# Altium schematic symbol library jlcpcb_2025_04_ferrites_extended_0402.schlib: 536 symbols (part 4 of 10)
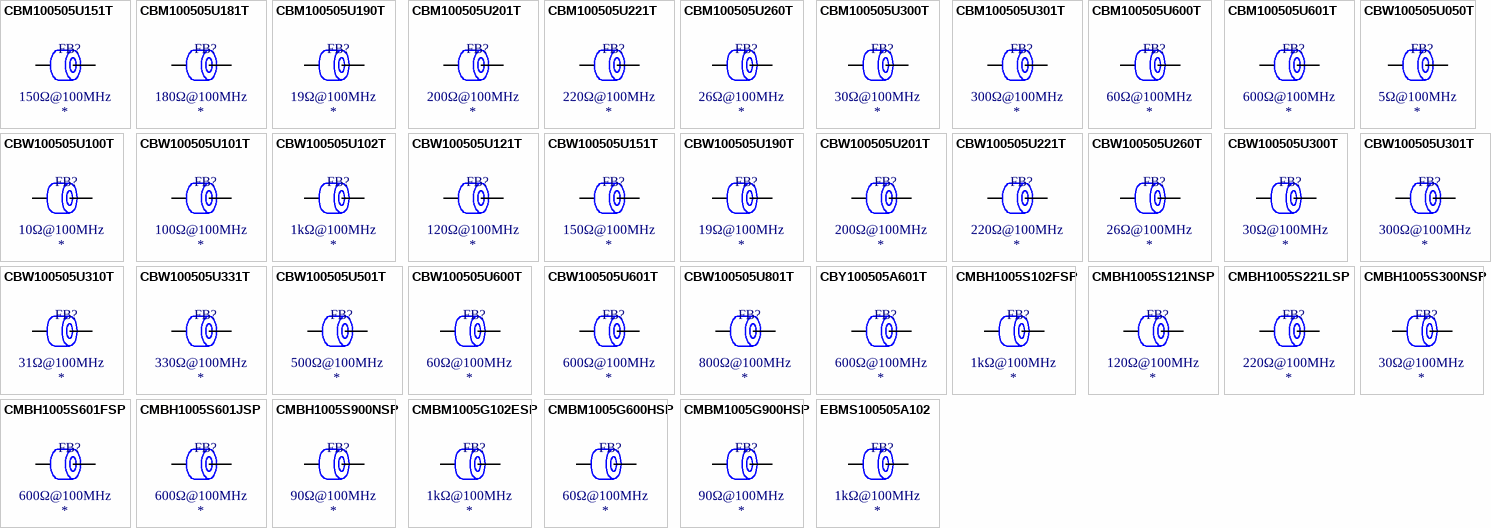
[diagram p16: symbols CBM100505U151T to EBMS100505A102]

## CBM100505U221T
designator FB?  Impedance @ Frequency: 220Ω@100MHz
Ferrite, 220Ω@100MHz, ±25%, 300mΩ, 600mA, SMD 0402; Manufacturer: FH(Guangdong Fenghua Advanced Tech); Manufacturer Part Number: CBM100505U221T; Package Size: 0402; JLCPCB Basic Part: No; JLCPCB Part Number: C394403; Supplier 1: LCSC; Category: Ferrite Beads; Supplier Part Number 1: C394403; Tolerance: ±25%; Rated Current: 600mA; DC Resistance: 300mΩ; RoHS: Yes; ComponentLink1Description: Datasheet; ComponentLink1URL: https://wmsc.lcsc.com/wmsc/upload/file/pdf/v2/lcsc/2304140030_FH--Guangdong-Fenghua-Advanced-Tech-CBM100505U221T_C394403.pdf; ComponentLink2Description: JLCPCB Part URL; ComponentLink2URL: https://jlcpcb.com/partdetail/C394403; ComponentLink3Description: LCSC Part URL; ComponentLink3URL: https://lcsc.com/product-detail/Ferrite-Beads_FH-Guangdong-Fenghua-Advanced-Tech-FH-Guangdong-Fenghua-Advanced-Tech-CBM100505U221T_C394403.html
footprint FB-0402 (0402 (1005M) Ferrite)
pins: 1, 2

## CBM100505U260T
designator FB?  Impedance @ Frequency: 26Ω@100MHz
Ferrite, 26Ω@100MHz, ±25%, SMD 0402; Manufacturer: FH(Guangdong Fenghua Advanced Tech); Manufacturer Part Number: CBM100505U260T; Package Size: 0402; JLCPCB Basic Part: No; JLCPCB Part Number: C394404; Supplier 1: LCSC; Category: Ferrite Beads; Supplier Part Number 1: C394404; Tolerance: ±25%; RoHS: Yes; ComponentLink1Description: Datasheet; ComponentLink1URL: https://wmsc.lcsc.com/wmsc/upload/file/pdf/v2/lcsc/1912111437_FH--Guangdong-Fenghua-Advanced-Tech-CBM100505U260T_C394404.pdf; ComponentLink2Description: JLCPCB Part URL; ComponentLink2URL: https://jlcpcb.com/partdetail/C394404; ComponentLink3Description: LCSC Part URL; ComponentLink3URL: https://lcsc.com/product-detail/Ferrite-Beads_FH-Guangdong-Fenghua-Advanced-Tech-FH-Guangdong-Fenghua-Advanced-Tech-CBM100505U260T_C394404.html
pins: 1, 2

## CBM100505U300T
designator FB?  Impedance @ Frequency: 30Ω@100MHz
Ferrite, 30Ω@100MHz, ±25%, 80mΩ, 1.3A, SMD 0402; Manufacturer: FH(Guangdong Fenghua Advanced Tech); Manufacturer Part Number: CBM100505U300T; Package Size: 0402; JLCPCB Basic Part: No; JLCPCB Part Number: C394405; Supplier 1: LCSC; Category: Ferrite Beads; Supplier Part Number 1: C394405; Tolerance: ±25%; Rated Current: 1.3A; DC Resistance: 80mΩ; RoHS: Yes; ComponentLink1Description: Datasheet; ComponentLink1URL: https://wmsc.lcsc.com/wmsc/upload/file/pdf/v2/lcsc/2304140030_FH--Guangdong-Fenghua-Advanced-Tech-CBM100505U300T_C394405.pdf; ComponentLink2Description: JLCPCB Part URL; ComponentLink2URL: https://jlcpcb.com/partdetail/C394405; ComponentLink3Description: LCSC Part URL; ComponentLink3URL: https://lcsc.com/product-detail/Ferrite-Beads_FH-Guangdong-Fenghua-Advanced-Tech-FH-Guangdong-Fenghua-Advanced-Tech-CBM100505U300T_C394405.html
footprint FB-0402 (0402 (1005M) Ferrite)
pins: 1, 2

## CBM100505U301T
designator FB?  Impedance @ Frequency: 300Ω@100MHz
Ferrite, 300Ω@100MHz, ±25%, 300mΩ, 600mA, SMD 0402; Manufacturer: FH(Guangdong Fenghua Advanced Tech); Manufacturer Part Number: CBM100505U301T; Package Size: 0402; JLCPCB Basic Part: No; JLCPCB Part Number: C394406; Supplier 1: LCSC; Category: Ferrite Beads; Supplier Part Number 1: C394406; Tolerance: ±25%; Rated Current: 600mA; DC Resistance: 300mΩ; RoHS: Yes; ComponentLink1Description: Datasheet; ComponentLink1URL: https://wmsc.lcsc.com/wmsc/upload/file/pdf/v2/lcsc/2304140030_FH--Guangdong-Fenghua-Advanced-Tech-CBM100505U301T_C394406.pdf; ComponentLink2Description: JLCPCB Part URL; ComponentLink2URL: https://jlcpcb.com/partdetail/C394406; ComponentLink3Description: LCSC Part URL; ComponentLink3URL: https://lcsc.com/product-detail/Ferrite-Beads_FH-Guangdong-Fenghua-Advanced-Tech-FH-Guangdong-Fenghua-Advanced-Tech-CBM100505U301T_C394406.html
footprint FB-0402 (0402 (1005M) Ferrite)
pins: 1, 2

## CBM100505U600T
designator FB?  Impedance @ Frequency: 60Ω@100MHz
Ferrite, 60Ω@100MHz, ±25%, 100mΩ, 1A, SMD 0402; Manufacturer: FH(Guangdong Fenghua Advanced Tech); Manufacturer Part Number: CBM100505U600T; Package Size: 0402; JLCPCB Basic Part: No; JLCPCB Part Number: C394407; Supplier 1: LCSC; Category: Ferrite Beads; Supplier Part Number 1: C394407; Tolerance: ±25%; Rated Current: 1A; DC Resistance: 100mΩ; RoHS: Yes; ComponentLink1Description: Datasheet; ComponentLink1URL: https://wmsc.lcsc.com/wmsc/upload/file/pdf/v2/lcsc/2304140030_FH--Guangdong-Fenghua-Advanced-Tech-CBM100505U600T_C394407.pdf; ComponentLink2Description: JLCPCB Part URL; ComponentLink2URL: https://jlcpcb.com/partdetail/C394407; ComponentLink3Description: LCSC Part URL; ComponentLink3URL: https://lcsc.com/product-detail/Ferrite-Beads_FH-Guangdong-Fenghua-Advanced-Tech-FH-Guangdong-Fenghua-Advanced-Tech-CBM100505U600T_C394407.html
footprint FB-0402 (0402 (1005M) Ferrite)
pins: 1, 2

## CBM100505U601T
designator FB?  Impedance @ Frequency: 600Ω@100MHz
Ferrite, 600Ω@100MHz, ±25%, 500mΩ, 500mA, SMD 0402; Manufacturer: FH(Guangdong Fenghua Advanced Tech); Manufacturer Part Number: CBM100505U601T; Package Size: 0402; JLCPCB Basic Part: No; JLCPCB Part Number: C394408; Supplier 1: LCSC; Category: Ferrite Beads; Supplier Part Number 1: C394408; Tolerance: ±25%; Rated Current: 500mA; DC Resistance: 500mΩ; RoHS: Yes; ComponentLink1Description: Datasheet; ComponentLink1URL: https://wmsc.lcsc.com/wmsc/upload/file/pdf/v2/lcsc/2304140030_FH--Guangdong-Fenghua-Advanced-Tech-CBM100505U601T_C394408.pdf; ComponentLink2Description: JLCPCB Part URL; ComponentLink2URL: https://jlcpcb.com/partdetail/C394408; ComponentLink3Description: LCSC Part URL; ComponentLink3URL: https://lcsc.com/product-detail/Ferrite-Beads_FH-Guangdong-Fenghua-Advanced-Tech-FH-Guangdong-Fenghua-Advanced-Tech-CBM100505U601T_C394408.html
footprint FB-0402 (0402 (1005M) Ferrite)
pins: 1, 2

## CBW100505U050T
designator FB?  Impedance @ Frequency: 5Ω@100MHz
Ferrite, 5Ω@100MHz, 40mΩ, 800mA, SMD 0402; Manufacturer: FH (Guangdong Fenghua Advanced Tech); Manufacturer Part Number: CBW100505U050T; Package Size: 0402; JLCPCB Basic Part: No; JLCPCB Part Number: C5344394; Supplier 1: LCSC; Category: Ferrite Beads; Supplier Part Number 1: C5344394; Rated Current: 800mA; DC Resistance: 40mΩ; RoHS: Yes; ComponentLink1Description: Datasheet; ComponentLink1URL: https://wmsc.lcsc.com/wmsc/upload/file/pdf/v2/lcsc/2212281730_FH--Guangdong-Fenghua-Advanced-Tech-CBW100505U050T_C5344394.pdf; ComponentLink2Description: JLCPCB Part URL; ComponentLink2URL: https://jlcpcb.com/partdetail/C5344394; ComponentLink3Description: LCSC Part URL; ComponentLink3URL: https://lcsc.com/product-detail/Ferrite-Beads_FH-Guangdong-Fenghua-Advanced-Tech-FH-Guangdong-Fenghua-Advanced-Tech-CBW100505U050T_C5344394.html
pins: 1, 2

## CBW100505U100T
designator FB?  Impedance @ Frequency: 10Ω@100MHz
Ferrite, 10Ω@100MHz, ±25%, SMD 0402; Manufacturer: FH(Guangdong Fenghua Advanced Tech); Manufacturer Part Number: CBW100505U100T; Package Size: 0402; JLCPCB Basic Part: No; JLCPCB Part Number: C139171; Supplier 1: LCSC; Category: Ferrite Beads; Supplier Part Number 1: C139171; Tolerance: ±25%; RoHS: Yes; ComponentLink1Description: Datasheet; ComponentLink1URL: https://wmsc.lcsc.com/wmsc/upload/file/pdf/v2/lcsc/2304140030_FH--Guangdong-Fenghua-Advanced-Tech-CBW100505U100T_C139171.pdf; ComponentLink2Description: JLCPCB Part URL; ComponentLink2URL: https://jlcpcb.com/partdetail/C139171; ComponentLink3Description: LCSC Part URL; ComponentLink3URL: https://lcsc.com/product-detail/Ferrite-Beads_FH-Guangdong-Fenghua-Advanced-Tech-FH-Guangdong-Fenghua-Advanced-Tech-CBW100505U100T_C139171.html
pins: 1, 2

## CBW100505U101T
designator FB?  Impedance @ Frequency: 100Ω@100MHz
Ferrite, 100Ω@100MHz, ±25%, 200mΩ, 450mA, SMD 0402; Manufacturer: FH(Guangdong Fenghua Advanced Tech); Manufacturer Part Number: CBW100505U101T; Package Size: 0402; JLCPCB Basic Part: No; JLCPCB Part Number: C124089; Supplier 1: LCSC; Category: Ferrite Beads; Supplier Part Number 1: C124089; Tolerance: ±25%; Rated Current: 450mA; DC Resistance: 200mΩ; RoHS: Yes; ComponentLink1Description: Datasheet; ComponentLink1URL: https://wmsc.lcsc.com/wmsc/upload/file/pdf/v2/lcsc/2304140030_FH--Guangdong-Fenghua-Advanced-Tech-CBW100505U101T_C124089.pdf; ComponentLink2Description: JLCPCB Part URL; ComponentLink2URL: https://jlcpcb.com/partdetail/C124089; ComponentLink3Description: LCSC Part URL; ComponentLink3URL: https://lcsc.com/product-detail/Ferrite-Beads_FH-Guangdong-Fenghua-Advanced-Tech-FH-Guangdong-Fenghua-Advanced-Tech-CBW100505U101T_C124089.html
footprint FB-0402 (0402 (1005M) Ferrite)
pins: 1, 2

## CBW100505U102T
designator FB?  Impedance @ Frequency: 1kΩ@100MHz
Ferrite, 1kΩ@100MHz, ±25%, 1Ω, 200mA, SMD 0402; Manufacturer: FH(Guangdong Fenghua Advanced Tech); Manufacturer Part Number: CBW100505U102T; Package Size: 0402; JLCPCB Basic Part: No; JLCPCB Part Number: C394453; Supplier 1: LCSC; Category: Ferrite Beads; Supplier Part Number 1: C394453; Tolerance: ±25%; Rated Current: 200mA; DC Resistance: 1Ω; RoHS: Yes; ComponentLink1Description: Datasheet; ComponentLink1URL: https://wmsc.lcsc.com/wmsc/upload/file/pdf/v2/lcsc/2304140030_FH--Guangdong-Fenghua-Advanced-Tech-CBW100505U102T_C394453.pdf; ComponentLink2Description: JLCPCB Part URL; ComponentLink2URL: https://jlcpcb.com/partdetail/C394453; ComponentLink3Description: LCSC Part URL; ComponentLink3URL: https://lcsc.com/product-detail/Ferrite-Beads_FH-Guangdong-Fenghua-Advanced-Tech-FH-Guangdong-Fenghua-Advanced-Tech-CBW100505U102T_C394453.html
footprint FB-0402 (0402 (1005M) Ferrite)
pins: 1, 2

## CBW100505U121T
designator FB?  Impedance @ Frequency: 120Ω@100MHz
Ferrite, 120Ω@100MHz, ±25%, 250mΩ, 450mA, SMD 0402; Manufacturer: FH(Guangdong Fenghua Advanced Tech); Manufacturer Part Number: CBW100505U121T; Package Size: 0402; JLCPCB Basic Part: No; JLCPCB Part Number: C124088; Supplier 1: LCSC; Category: Ferrite Beads; Supplier Part Number 1: C124088; Tolerance: ±25%; Rated Current: 450mA; DC Resistance: 250mΩ; RoHS: Yes; ComponentLink1Description: Datasheet; ComponentLink1URL: https://wmsc.lcsc.com/wmsc/upload/file/pdf/v2/lcsc/2304140030_FH--Guangdong-Fenghua-Advanced-Tech-CBW100505U121T_C124088.pdf; ComponentLink2Description: JLCPCB Part URL; ComponentLink2URL: https://jlcpcb.com/partdetail/C124088; ComponentLink3Description: LCSC Part URL; ComponentLink3URL: https://lcsc.com/product-detail/Ferrite-Beads_FH-Guangdong-Fenghua-Advanced-Tech-FH-Guangdong-Fenghua-Advanced-Tech-CBW100505U121T_C124088.html
footprint FB-0402 (0402 (1005M) Ferrite)
pins: 1, 2

## CBW100505U151T
designator FB?  Impedance @ Frequency: 150Ω@100MHz
Ferrite, 150Ω@100MHz, ±25%, 250mΩ, 450mA, SMD 0402; Manufacturer: FH(Guangdong Fenghua Advanced Tech); Manufacturer Part Number: CBW100505U151T; Package Size: 0402; JLCPCB Basic Part: No; JLCPCB Part Number: C394454; Supplier 1: LCSC; Category: Ferrite Beads; Supplier Part Number 1: C394454; Tolerance: ±25%; Rated Current: 450mA; DC Resistance: 250mΩ; RoHS: Yes; ComponentLink1Description: Datasheet; ComponentLink1URL: https://wmsc.lcsc.com/wmsc/upload/file/pdf/v2/lcsc/2304140030_FH--Guangdong-Fenghua-Advanced-Tech-CBW100505U151T_C394454.pdf; ComponentLink2Description: JLCPCB Part URL; ComponentLink2URL: https://jlcpcb.com/partdetail/C394454; ComponentLink3Description: LCSC Part URL; ComponentLink3URL: https://lcsc.com/product-detail/Ferrite-Beads_FH-Guangdong-Fenghua-Advanced-Tech-FH-Guangdong-Fenghua-Advanced-Tech-CBW100505U151T_C394454.html
footprint FB-0402 (0402 (1005M) Ferrite)
pins: 1, 2

## CBW100505U190T
designator FB?  Impedance @ Frequency: 19Ω@100MHz
Ferrite, 19Ω@100MHz, 60mΩ, 700mA, SMD 0402; Manufacturer: FH(Guangdong Fenghua Advanced Tech); Manufacturer Part Number: CBW100505U190T; Package Size: 0402; JLCPCB Basic Part: No; JLCPCB Part Number: C394455; Supplier 1: LCSC; Category: Ferrite Beads; Supplier Part Number 1: C394455; Rated Current: 700mA; DC Resistance: 60mΩ; RoHS: Yes; ComponentLink1Description: Datasheet; ComponentLink1URL: https://wmsc.lcsc.com/wmsc/upload/file/pdf/v2/lcsc/2304140030_FH--Guangdong-Fenghua-Advanced-Tech-CBW100505U190T_C394455.pdf; ComponentLink2Description: JLCPCB Part URL; ComponentLink2URL: https://jlcpcb.com/partdetail/C394455; ComponentLink3Description: LCSC Part URL; ComponentLink3URL: https://lcsc.com/product-detail/Ferrite-Beads_FH-Guangdong-Fenghua-Advanced-Tech-FH-Guangdong-Fenghua-Advanced-Tech-CBW100505U190T_C394455.html
pins: 1, 2

## CBW100505U201T
designator FB?  Impedance @ Frequency: 200Ω@100MHz
Ferrite, 200Ω@100MHz, ±25%, 400mΩ, 300mA, SMD 0402; Manufacturer: FH(Guangdong Fenghua Advanced Tech); Manufacturer Part Number: CBW100505U201T; Package Size: 0402; JLCPCB Basic Part: No; JLCPCB Part Number: C394456; Supplier 1: LCSC; Category: Ferrite Beads; Supplier Part Number 1: C394456; Tolerance: ±25%; Rated Current: 300mA; DC Resistance: 400mΩ; RoHS: Yes; ComponentLink1Description: Datasheet; ComponentLink1URL: https://wmsc.lcsc.com/wmsc/upload/file/pdf/v2/lcsc/2304140030_FH--Guangdong-Fenghua-Advanced-Tech-CBW100505U201T_C394456.pdf; ComponentLink2Description: JLCPCB Part URL; ComponentLink2URL: https://jlcpcb.com/partdetail/C394456; ComponentLink3Description: LCSC Part URL; ComponentLink3URL: https://lcsc.com/product-detail/Ferrite-Beads_FH-Guangdong-Fenghua-Advanced-Tech-FH-Guangdong-Fenghua-Advanced-Tech-CBW100505U201T_C394456.html
footprint FB-0402 (0402 (1005M) Ferrite)
pins: 1, 2

## CBW100505U221T
designator FB?  Impedance @ Frequency: 220Ω@100MHz
Ferrite, 220Ω@100MHz, ±25%, 400mΩ, 300mA, SMD 0402; Manufacturer: FH(Guangdong Fenghua Advanced Tech); Manufacturer Part Number: CBW100505U221T; Package Size: 0402; JLCPCB Basic Part: No; JLCPCB Part Number: C124087; Supplier 1: LCSC; Category: Ferrite Beads; Supplier Part Number 1: C124087; Tolerance: ±25%; Rated Current: 300mA; DC Resistance: 400mΩ; RoHS: Yes; ComponentLink1Description: Datasheet; ComponentLink1URL: https://wmsc.lcsc.com/wmsc/upload/file/pdf/v2/lcsc/2304140030_FH--Guangdong-Fenghua-Advanced-Tech-CBW100505U221T_C124087.pdf; ComponentLink2Description: JLCPCB Part URL; ComponentLink2URL: https://jlcpcb.com/partdetail/C124087; ComponentLink3Description: LCSC Part URL; ComponentLink3URL: https://lcsc.com/product-detail/Ferrite-Beads_FH-Guangdong-Fenghua-Advanced-Tech-FH-Guangdong-Fenghua-Advanced-Tech-CBW100505U221T_C124087.html
footprint FB-0402 (0402 (1005M) Ferrite)
pins: 1, 2

## CBW100505U260T
designator FB?  Impedance @ Frequency: 26Ω@100MHz
Ferrite, 26Ω@100MHz, ±25%, 60mΩ, 700mA, SMD 0402; Manufacturer: FH(Guangdong Fenghua Advanced Tech); Manufacturer Part Number: CBW100505U260T; Package Size: 0402; JLCPCB Basic Part: No; JLCPCB Part Number: C394457; Supplier 1: LCSC; Category: Ferrite Beads; Supplier Part Number 1: C394457; Tolerance: ±25%; Rated Current: 700mA; DC Resistance: 60mΩ; RoHS: Yes; ComponentLink1Description: Datasheet; ComponentLink1URL: https://wmsc.lcsc.com/wmsc/upload/file/pdf/v2/lcsc/2304140030_FH--Guangdong-Fenghua-Advanced-Tech-CBW100505U260T_C394457.pdf; ComponentLink2Description: JLCPCB Part URL; ComponentLink2URL: https://jlcpcb.com/partdetail/C394457; ComponentLink3Description: LCSC Part URL; ComponentLink3URL: https://lcsc.com/product-detail/Ferrite-Beads_FH-Guangdong-Fenghua-Advanced-Tech-FH-Guangdong-Fenghua-Advanced-Tech-CBW100505U260T_C394457.html
footprint FB-0402 (0402 (1005M) Ferrite)
pins: 1, 2

## CBW100505U300T
designator FB?  Impedance @ Frequency: 30Ω@100MHz
Ferrite, 30Ω@100MHz, ±25%, SMD 0402; Manufacturer: FH(Guangdong Fenghua Advanced Tech); Manufacturer Part Number: CBW100505U300T; Package Size: 0402; JLCPCB Basic Part: No; JLCPCB Part Number: C139172; Supplier 1: LCSC; Category: Ferrite Beads; Supplier Part Number 1: C139172; Tolerance: ±25%; RoHS: Yes; ComponentLink1Description: Datasheet; ComponentLink1URL: https://wmsc.lcsc.com/wmsc/upload/file/pdf/v2/lcsc/2304140030_FH--Guangdong-Fenghua-Advanced-Tech-CBW100505U300T_C139172.pdf; ComponentLink2Description: JLCPCB Part URL; ComponentLink2URL: https://jlcpcb.com/partdetail/C139172; ComponentLink3Description: LCSC Part URL; ComponentLink3URL: https://lcsc.com/product-detail/Ferrite-Beads_FH-Guangdong-Fenghua-Advanced-Tech-FH-Guangdong-Fenghua-Advanced-Tech-CBW100505U300T_C139172.html
pins: 1, 2

## CBW100505U301T
designator FB?  Impedance @ Frequency: 300Ω@100MHz
Ferrite, 300Ω@100MHz, ±25%, 500mΩ, 300mA, SMD 0402; Manufacturer: FH(Guangdong Fenghua Advanced Tech); Manufacturer Part Number: CBW100505U301T; Package Size: 0402; JLCPCB Basic Part: No; JLCPCB Part Number: C124086; Supplier 1: LCSC; Category: Ferrite Beads; Supplier Part Number 1: C124086; Tolerance: ±25%; Rated Current: 300mA; DC Resistance: 500mΩ; RoHS: Yes; ComponentLink1Description: Datasheet; ComponentLink1URL: https://wmsc.lcsc.com/wmsc/upload/file/pdf/v2/lcsc/2304140030_FH--Guangdong-Fenghua-Advanced-Tech-CBW100505U301T_C124086.pdf; ComponentLink2Description: JLCPCB Part URL; ComponentLink2URL: https://jlcpcb.com/partdetail/C124086; ComponentLink3Description: LCSC Part URL; ComponentLink3URL: https://lcsc.com/product-detail/Ferrite-Beads_FH-Guangdong-Fenghua-Advanced-Tech-FH-Guangdong-Fenghua-Advanced-Tech-CBW100505U301T_C124086.html
footprint FB-0402 (0402 (1005M) Ferrite)
pins: 1, 2

## CBW100505U310T
designator FB?  Impedance @ Frequency: 31Ω@100MHz
Ferrite, 31Ω@100MHz, ±25%, 80mΩ, 700mA, SMD 0402; Manufacturer: FH(Guangdong Fenghua Advanced Tech); Manufacturer Part Number: CBW100505U310T; Package Size: 0402; JLCPCB Basic Part: No; JLCPCB Part Number: C394458; Supplier 1: LCSC; Category: Ferrite Beads; Supplier Part Number 1: C394458; Tolerance: ±25%; Rated Current: 700mA; DC Resistance: 80mΩ; RoHS: Yes; ComponentLink1Description: Datasheet; ComponentLink1URL: https://wmsc.lcsc.com/wmsc/upload/file/pdf/v2/lcsc/2304140030_FH--Guangdong-Fenghua-Advanced-Tech-CBW100505U310T_C394458.pdf; ComponentLink2Description: JLCPCB Part URL; ComponentLink2URL: https://jlcpcb.com/partdetail/C394458; ComponentLink3Description: LCSC Part URL; ComponentLink3URL: https://lcsc.com/product-detail/Ferrite-Beads_FH-Guangdong-Fenghua-Advanced-Tech-FH-Guangdong-Fenghua-Advanced-Tech-CBW100505U310T_C394458.html
footprint FB-0402 (0402 (1005M) Ferrite)
pins: 1, 2

## CBW100505U331T
designator FB?  Impedance @ Frequency: 330Ω@100MHz
Ferrite, 330Ω@100MHz, ±25%, SMD 0402; Manufacturer: FH(Guangdong Fenghua Advanced Tech); Manufacturer Part Number: CBW100505U331T; Package Size: 0402; JLCPCB Basic Part: No; JLCPCB Part Number: C124085; Supplier 1: LCSC; Category: Ferrite Beads; Supplier Part Number 1: C124085; Tolerance: ±25%; RoHS: Yes; ComponentLink1Description: Datasheet; ComponentLink1URL: https://wmsc.lcsc.com/wmsc/upload/file/pdf/v2/lcsc/2304140030_FH--Guangdong-Fenghua-Advanced-Tech-CBW100505U331T_C124085.pdf; ComponentLink2Description: JLCPCB Part URL; ComponentLink2URL: https://jlcpcb.com/partdetail/C124085; ComponentLink3Description: LCSC Part URL; ComponentLink3URL: https://lcsc.com/product-detail/Ferrite-Beads_FH-Guangdong-Fenghua-Advanced-Tech-FH-Guangdong-Fenghua-Advanced-Tech-CBW100505U331T_C124085.html
pins: 1, 2

## CBW100505U501T
designator FB?  Impedance @ Frequency: 500Ω@100MHz
Ferrite, 500Ω@100MHz, ±25%, 650mΩ, 200mA, SMD 0402; Manufacturer: FH(Guangdong Fenghua Advanced Tech); Manufacturer Part Number: CBW100505U501T; Package Size: 0402; JLCPCB Basic Part: No; JLCPCB Part Number: C124084; Supplier 1: LCSC; Category: Ferrite Beads; Supplier Part Number 1: C124084; Tolerance: ±25%; Rated Current: 200mA; DC Resistance: 650mΩ; RoHS: Yes; ComponentLink1Description: Datasheet; ComponentLink1URL: https://wmsc.lcsc.com/wmsc/upload/file/pdf/v2/lcsc/2304140030_FH--Guangdong-Fenghua-Advanced-Tech-CBW100505U501T_C124084.pdf; ComponentLink2Description: JLCPCB Part URL; ComponentLink2URL: https://jlcpcb.com/partdetail/C124084; ComponentLink3Description: LCSC Part URL; ComponentLink3URL: https://lcsc.com/product-detail/Ferrite-Beads_FH-Guangdong-Fenghua-Advanced-Tech-FH-Guangdong-Fenghua-Advanced-Tech-CBW100505U501T_C124084.html
footprint FB-0402 (0402 (1005M) Ferrite)
pins: 1, 2

## CBW100505U600T
designator FB?  Impedance @ Frequency: 60Ω@100MHz
Ferrite, 60Ω@100MHz, ±25%, 150mΩ, 600mA, SMD 0402; Manufacturer: FH(Guangdong Fenghua Advanced Tech); Manufacturer Part Number: CBW100505U600T; Package Size: 0402; JLCPCB Basic Part: No; JLCPCB Part Number: C316432; Supplier 1: LCSC; Category: Ferrite Beads; Supplier Part Number 1: C316432; Tolerance: ±25%; Rated Current: 600mA; DC Resistance: 150mΩ; RoHS: Yes; ComponentLink1Description: Datasheet; ComponentLink1URL: https://wmsc.lcsc.com/wmsc/upload/file/pdf/v2/lcsc/1811141623_FH--Guangdong-Fenghua-Advanced-Tech-CBW100505U600T_C316432.pdf; ComponentLink2Description: JLCPCB Part URL; ComponentLink2URL: https://jlcpcb.com/partdetail/C316432; ComponentLink3Description: LCSC Part URL; ComponentLink3URL: https://lcsc.com/product-detail/Ferrite-Beads_FH-Guangdong-Fenghua-Advanced-Tech-FH-Guangdong-Fenghua-Advanced-Tech-CBW100505U600T_C316432.html
footprint FB-0402 (0402 (1005M) Ferrite)
pins: 1, 2

## CBW100505U601T
designator FB?  Impedance @ Frequency: 600Ω@100MHz
Ferrite, 600Ω@100MHz, ±25%, 700mΩ, 200mA, SMD 0402; Manufacturer: FH(Guangdong Fenghua Advanced Tech); Manufacturer Part Number: CBW100505U601T; Package Size: 0402; JLCPCB Basic Part: No; JLCPCB Part Number: C124083; Supplier 1: LCSC; Category: Ferrite Beads; Supplier Part Number 1: C124083; Tolerance: ±25%; Rated Current: 200mA; DC Resistance: 700mΩ; RoHS: Yes; ComponentLink1Description: Datasheet; ComponentLink1URL: https://wmsc.lcsc.com/wmsc/upload/file/pdf/v2/lcsc/2304140030_FH--Guangdong-Fenghua-Advanced-Tech-CBW100505U601T_C124083.pdf; ComponentLink2Description: JLCPCB Part URL; ComponentLink2URL: https://jlcpcb.com/partdetail/C124083; ComponentLink3Description: LCSC Part URL; ComponentLink3URL: https://lcsc.com/product-detail/Ferrite-Beads_FH-Guangdong-Fenghua-Advanced-Tech-FH-Guangdong-Fenghua-Advanced-Tech-CBW100505U601T_C124083.html
footprint FB-0402 (0402 (1005M) Ferrite)
pins: 1, 2

## CBW100505U801T
designator FB?  Impedance @ Frequency: 800Ω@100MHz
Ferrite, 800Ω@100MHz, ±25%, 900mΩ, 200mA, SMD 0402; Manufacturer: FH(Guangdong Fenghua Advanced Tech); Manufacturer Part Number: CBW100505U801T; Package Size: 0402; JLCPCB Basic Part: No; JLCPCB Part Number: C316431; Supplier 1: LCSC; Category: Ferrite Beads; Supplier Part Number 1: C316431; Tolerance: ±25%; Rated Current: 200mA; DC Resistance: 900mΩ; RoHS: Yes; ComponentLink1Description: Datasheet; ComponentLink1URL: https://wmsc.lcsc.com/wmsc/upload/file/pdf/v2/lcsc/2304140030_FH--Guangdong-Fenghua-Advanced-Tech-CBW100505U801T_C316431.pdf; ComponentLink2Description: JLCPCB Part URL; ComponentLink2URL: https://jlcpcb.com/partdetail/C316431; ComponentLink3Description: LCSC Part URL; ComponentLink3URL: https://lcsc.com/product-detail/Ferrite-Beads_FH-Guangdong-Fenghua-Advanced-Tech-FH-Guangdong-Fenghua-Advanced-Tech-CBW100505U801T_C316431.html
footprint FB-0402 (0402 (1005M) Ferrite)
pins: 1, 2

## CBY100505A601T
designator FB?  Impedance @ Frequency: 600Ω@100MHz
Ferrite, 600Ω@100MHz, ±25%, 1.3Ω, 100mA, SMD 0402; Manufacturer: FH(Guangdong Fenghua Advanced Tech); Manufacturer Part Number: CBY100505A601T; Package Size: 0402; JLCPCB Basic Part: No; JLCPCB Part Number: C1322415; Supplier 1: LCSC; Category: Ferrite Beads; Supplier Part Number 1: C1322415; Tolerance: ±25%; Rated Current: 100mA; DC Resistance: 1.3Ω; RoHS: Yes; ComponentLink1Description: Datasheet; ComponentLink1URL: https://wmsc.lcsc.com/wmsc/upload/file/pdf/v2/lcsc/2012181943_FH--Guangdong-Fenghua-Advanced-Tech-CBY100505A601T_C1322415.pdf; ComponentLink2Description: JLCPCB Part URL; ComponentLink2URL: https://jlcpcb.com/partdetail/C1322415; ComponentLink3Description: LCSC Part URL; ComponentLink3URL: https://lcsc.com/product-detail/Ferrite-Beads_FH-Guangdong-Fenghua-Advanced-Tech-FH-Guangdong-Fenghua-Advanced-Tech-CBY100505A601T_C1322415.html
footprint FB-0402 (0402 (1005M) Ferrite)
pins: 1, 2

## CMBH1005S102FSP
designator FB?  Impedance @ Frequency: 1kΩ@100MHz
Ferrite, 1kΩ@100MHz, ±25%, 830mΩ, 500mA, SMD 0402; Manufacturer: Cybermax; Manufacturer Part Number: CMBH1005S102FSP; Package Size: 0402; JLCPCB Basic Part: No; JLCPCB Part Number: C404997; Supplier 1: LCSC; Category: Ferrite Beads; Supplier Part Number 1: C404997; Tolerance: ±25%; Rated Current: 500mA; DC Resistance: 830mΩ; RoHS: Yes; ComponentLink1Description: Datasheet; ComponentLink1URL: https://wmsc.lcsc.com/wmsc/upload/file/pdf/v2/lcsc/1912111437_Cybermax-CMBH1005S102FSP_C404997.pdf; ComponentLink2Description: JLCPCB Part URL; ComponentLink2URL: https://jlcpcb.com/partdetail/C404997; ComponentLink3Description: LCSC Part URL; ComponentLink3URL: https://lcsc.com/product-detail/Ferrite-Beads_Cybermax-Cybermax-CMBH1005S102FSP_C404997.html
footprint FB-0402 (0402 (1005M) Ferrite)
pins: 1, 2

## CMBH1005S121NSP
designator FB?  Impedance @ Frequency: 120Ω@100MHz
Ferrite, 120Ω@100MHz, ±25%, 95mΩ, 2A, SMD 0402; Manufacturer: Cybermax; Manufacturer Part Number: CMBH1005S121NSP; Package Size: 0402; JLCPCB Basic Part: No; JLCPCB Part Number: C404994; Supplier 1: LCSC; Category: Ferrite Beads; Supplier Part Number 1: C404994; Tolerance: ±25%; Rated Current: 2A; DC Resistance: 95mΩ; RoHS: Yes; ComponentLink1Description: Datasheet; ComponentLink1URL: https://wmsc.lcsc.com/wmsc/upload/file/pdf/v2/lcsc/2304140030_Cybermax-CMBH1005S121NSP_C404994.pdf; ComponentLink2Description: JLCPCB Part URL; ComponentLink2URL: https://jlcpcb.com/partdetail/C404994; ComponentLink3Description: LCSC Part URL; ComponentLink3URL: https://lcsc.com/product-detail/Ferrite-Beads_Cybermax-Cybermax-CMBH1005S121NSP_C404994.html
footprint FB-0402 (0402 (1005M) Ferrite)
pins: 1, 2

## CMBH1005S221LSP
designator FB?  Impedance @ Frequency: 220Ω@100MHz
Ferrite, 220Ω@100MHz, ±25%, 1A, SMD 0402; Manufacturer: Cybermax; Manufacturer Part Number: CMBH1005S221LSP; Package Size: 0402; JLCPCB Basic Part: No; JLCPCB Part Number: C404995; Supplier 1: LCSC; Category: Ferrite Beads; Supplier Part Number 1: C404995; Tolerance: ±25%; Rated Current: 1A; RoHS: Yes; ComponentLink1Description: Datasheet; ComponentLink1URL: https://wmsc.lcsc.com/wmsc/upload/file/pdf/v2/lcsc/2304140030_Cybermax-CMBH1005S221LSP_C404995.pdf; ComponentLink2Description: JLCPCB Part URL; ComponentLink2URL: https://jlcpcb.com/partdetail/C404995; ComponentLink3Description: LCSC Part URL; ComponentLink3URL: https://lcsc.com/product-detail/Ferrite-Beads_Cybermax-Cybermax-CMBH1005S221LSP_C404995.html
pins: 1, 2

## CMBH1005S300NSP
designator FB?  Impedance @ Frequency: 30Ω@100MHz
Ferrite, 30Ω@100MHz, ±25%, 60mΩ, 2.5A, SMD 0402; Manufacturer: Cybermax; Manufacturer Part Number: CMBH1005S300NSP; Package Size: 0402; JLCPCB Basic Part: No; JLCPCB Part Number: C404991; Supplier 1: LCSC; Category: Ferrite Beads; Supplier Part Number 1: C404991; Tolerance: ±25%; Rated Current: 2.5A; DC Resistance: 60mΩ; RoHS: Yes; ComponentLink1Description: Datasheet; ComponentLink1URL: https://wmsc.lcsc.com/wmsc/upload/file/pdf/v2/lcsc/2108131830_Cybermax-CMBH1005S300NSP_C404991.pdf; ComponentLink2Description: JLCPCB Part URL; ComponentLink2URL: https://jlcpcb.com/partdetail/C404991; ComponentLink3Description: LCSC Part URL; ComponentLink3URL: https://lcsc.com/product-detail/Ferrite-Beads_Cybermax-Cybermax-CMBH1005S300NSP_C404991.html
footprint FB-0402 (0402 (1005M) Ferrite)
pins: 1, 2

## CMBH1005S601FSP
designator FB?  Impedance @ Frequency: 600Ω@100MHz
Ferrite, 600Ω@100MHz, ±25%, 500mA, SMD 0402; Manufacturer: Cybermax; Manufacturer Part Number: CMBH1005S601FSP; Package Size: 0402; JLCPCB Basic Part: No; JLCPCB Part Number: C404976; Supplier 1: LCSC; Category: Ferrite Beads; Supplier Part Number 1: C404976; Tolerance: ±25%; Rated Current: 500mA; RoHS: Yes; ComponentLink1Description: Datasheet; ComponentLink1URL: https://wmsc.lcsc.com/wmsc/upload/file/pdf/v2/lcsc/2304140030_Cybermax-CMBH1005S601FSP_C404976.pdf; ComponentLink2Description: JLCPCB Part URL; ComponentLink2URL: https://jlcpcb.com/partdetail/C404976; ComponentLink3Description: LCSC Part URL; ComponentLink3URL: https://lcsc.com/product-detail/Ferrite-Beads_Cybermax-Cybermax-CMBH1005S601FSP_C404976.html
pins: 1, 2

## CMBH1005S601JSP
designator FB?  Impedance @ Frequency: 600Ω@100MHz
Ferrite, 600Ω@100MHz, ±25%, 340mΩ, 800mA, SMD 0402; Manufacturer: Cybermax; Manufacturer Part Number: CMBH1005S601JSP; Package Size: 0402; JLCPCB Basic Part: No; JLCPCB Part Number: C404996; Supplier 1: LCSC; Category: Ferrite Beads; Supplier Part Number 1: C404996; Tolerance: ±25%; Rated Current: 800mA; DC Resistance: 340mΩ; RoHS: Yes; ComponentLink1Description: Datasheet; ComponentLink1URL: https://wmsc.lcsc.com/wmsc/upload/file/pdf/v2/lcsc/2304140030_Cybermax-CMBH1005S601JSP_C404996.pdf; ComponentLink2Description: JLCPCB Part URL; ComponentLink2URL: https://jlcpcb.com/partdetail/C404996; ComponentLink3Description: LCSC Part URL; ComponentLink3URL: https://lcsc.com/product-detail/Ferrite-Beads_Cybermax-Cybermax-CMBH1005S601JSP_C404996.html
footprint FB-0402 (0402 (1005M) Ferrite)
pins: 1, 2

## CMBH1005S900NSP
designator FB?  Impedance @ Frequency: 90Ω@100MHz
Ferrite, 90Ω@100MHz, ±25%, 90mΩ, 2A, SMD 0402; Manufacturer: Cybermax; Manufacturer Part Number: CMBH1005S900NSP; Package Size: 0402; JLCPCB Basic Part: No; JLCPCB Part Number: C404993; Supplier 1: LCSC; Category: Ferrite Beads; Supplier Part Number 1: C404993; Tolerance: ±25%; Rated Current: 2A; DC Resistance: 90mΩ; RoHS: Yes; ComponentLink1Description: Datasheet; ComponentLink1URL: https://wmsc.lcsc.com/wmsc/upload/file/pdf/v2/lcsc/2304140030_Cybermax-CMBH1005S900NSP_C404993.pdf; ComponentLink2Description: JLCPCB Part URL; ComponentLink2URL: https://jlcpcb.com/partdetail/C404993; ComponentLink3Description: LCSC Part URL; ComponentLink3URL: https://lcsc.com/product-detail/Ferrite-Beads_Cybermax-Cybermax-CMBH1005S900NSP_C404993.html
footprint FB-0402 (0402 (1005M) Ferrite)
pins: 1, 2

## CMBM1005G102ESP
designator FB?  Impedance @ Frequency: 1kΩ@100MHz
Ferrite, 1kΩ@100MHz, ±25%, 300mA, SMD 0402; Manufacturer: Cybermax; Manufacturer Part Number: CMBM1005G102ESP; Package Size: 0402; JLCPCB Basic Part: No; JLCPCB Part Number: C404977; Supplier 1: LCSC; Category: Ferrite Beads; Supplier Part Number 1: C404977; Tolerance: ±25%; Rated Current: 300mA; RoHS: Yes; ComponentLink1Description: Datasheet; ComponentLink1URL: https://wmsc.lcsc.com/wmsc/upload/file/pdf/v2/lcsc/1912111437_Cybermax-CMBM1005G102ESP_C404977.pdf; ComponentLink2Description: JLCPCB Part URL; ComponentLink2URL: https://jlcpcb.com/partdetail/C404977; ComponentLink3Description: LCSC Part URL; ComponentLink3URL: https://lcsc.com/product-detail/Ferrite-Beads_Cybermax-Cybermax-CMBM1005G102ESP_C404977.html
pins: 1, 2

## CMBM1005G600HSP
designator FB?  Impedance @ Frequency: 60Ω@100MHz
Ferrite, 60Ω@100MHz, ±25%, 200mΩ, 600mA, SMD 0402; Manufacturer: Cybermax; Manufacturer Part Number: CMBM1005G600HSP; Package Size: 0402; JLCPCB Basic Part: No; JLCPCB Part Number: C404972; Supplier 1: LCSC; Category: Ferrite Beads; Supplier Part Number 1: C404972; Tolerance: ±25%; Rated Current: 600mA; DC Resistance: 200mΩ; RoHS: Yes; ComponentLink1Description: Datasheet; ComponentLink1URL: https://wmsc.lcsc.com/wmsc/upload/file/pdf/v2/lcsc/2304140030_Cybermax-CMBM1005G600HSP_C404972.pdf; ComponentLink2Description: JLCPCB Part URL; ComponentLink2URL: https://jlcpcb.com/partdetail/C404972; ComponentLink3Description: LCSC Part URL; ComponentLink3URL: https://lcsc.com/product-detail/Ferrite-Beads_Cybermax-Cybermax-CMBM1005G600HSP_C404972.html
footprint FB-0402 (0402 (1005M) Ferrite)
pins: 1, 2

## CMBM1005G900HSP
designator FB?  Impedance @ Frequency: 90Ω@100MHz
Ferrite, 90Ω@100MHz, ±25%, 600mA, SMD 0402; Manufacturer: Cybermax; Manufacturer Part Number: CMBM1005G900HSP; Package Size: 0402; JLCPCB Basic Part: No; JLCPCB Part Number: C404973; Supplier 1: LCSC; Category: Ferrite Beads; Supplier Part Number 1: C404973; Tolerance: ±25%; Rated Current: 600mA; RoHS: Yes; ComponentLink1Description: Datasheet; ComponentLink1URL: https://wmsc.lcsc.com/wmsc/upload/file/pdf/v2/lcsc/2304140030_Cybermax-CMBM1005G900HSP_C404973.pdf; ComponentLink2Description: JLCPCB Part URL; ComponentLink2URL: https://jlcpcb.com/partdetail/C404973; ComponentLink3Description: LCSC Part URL; ComponentLink3URL: https://lcsc.com/product-detail/Ferrite-Beads_Cybermax-Cybermax-CMBM1005G900HSP_C404973.html
pins: 1, 2

## EBMS100505A102
designator FB?  Impedance @ Frequency: 1kΩ@100MHz
Ferrite, 1kΩ@100MHz, ±25%, 1Ω, 200mA, SMD 0402; Manufacturer: HYHONGYEX; Manufacturer Part Number: EBMS100505A102; Package Size: 0402; JLCPCB Basic Part: No; JLCPCB Part Number: C963843; Supplier 1: LCSC; Category: Ferrite Beads; Supplier Part Number 1: C963843; Tolerance: ±25%; Rated Current: 200mA; DC Resistance: 1Ω; RoHS: Yes; ComponentLink1Description: Datasheet; ComponentLink1URL: https://wmsc.lcsc.com/wmsc/upload/file/pdf/v2/lcsc/2304140030_HYHONGYEX-EBMS100505A102_C963843.pdf; ComponentLink2Description: JLCPCB Part URL; ComponentLink2URL: https://jlcpcb.com/partdetail/C963843; ComponentLink3Description: LCSC Part URL; ComponentLink3URL: https://lcsc.com/product-detail/Ferrite-Beads_HYHONGYEX-HYHONGYEX-EBMS100505A102_C963843.html
footprint FB-0402 (0402 (1005M) Ferrite)
pins: 1, 2

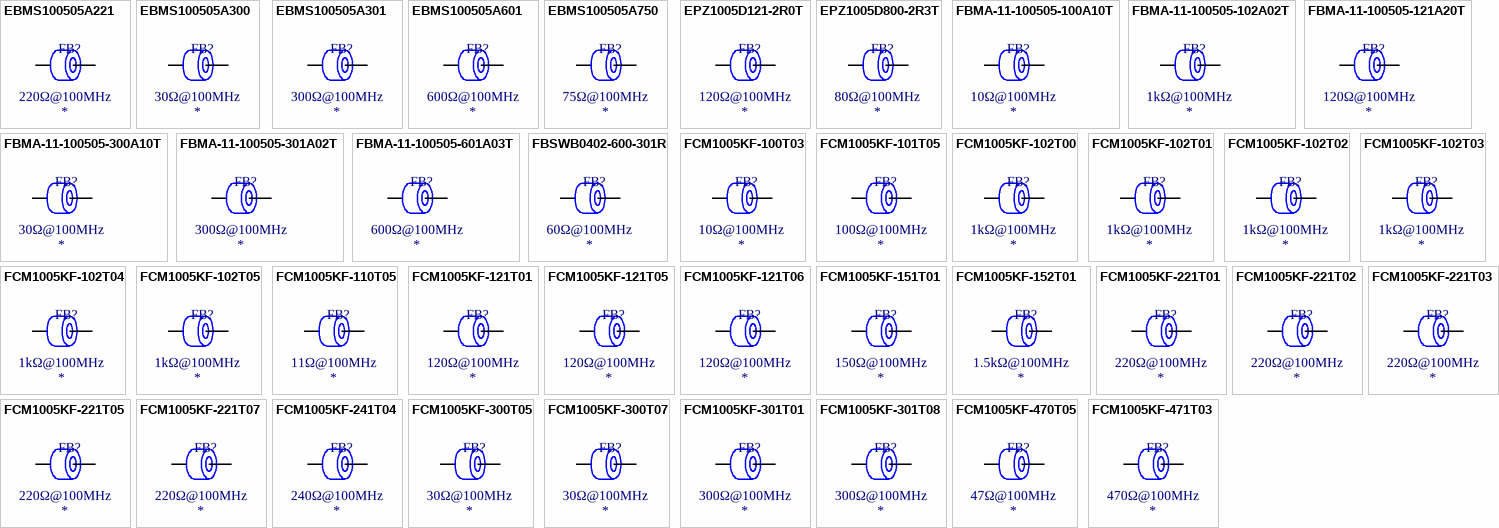
[diagram p5: symbols EBMS100505A221 to FCM1005KF-471T03]

## EBMS100505A221
designator FB?  Impedance @ Frequency: 220Ω@100MHz
Ferrite, 220Ω@100MHz, ±25%, 700mΩ, 300mA, SMD 0402; Manufacturer: HYHONGYEX; Manufacturer Part Number: EBMS100505A221; Package Size: 0402; JLCPCB Basic Part: No; JLCPCB Part Number: C963840; Supplier 1: LCSC; Category: Ferrite Beads; Supplier Part Number 1: C963840; Tolerance: ±25%; Rated Current: 300mA; DC Resistance: 700mΩ; RoHS: Yes; ComponentLink1Description: Datasheet; ComponentLink1URL: https://wmsc.lcsc.com/wmsc/upload/file/pdf/v2/lcsc/2304140030_HYHONGYEX-EBMS100505A221_C963840.pdf; ComponentLink2Description: JLCPCB Part URL; ComponentLink2URL: https://jlcpcb.com/partdetail/C963840; ComponentLink3Description: LCSC Part URL; ComponentLink3URL: https://lcsc.com/product-detail/Ferrite-Beads_HYHONGYEX-HYHONGYEX-EBMS100505A221_C963840.html
footprint FB-0402 (0402 (1005M) Ferrite)
pins: 1, 2

## EBMS100505A300
designator FB?  Impedance @ Frequency: 30Ω@100MHz
Ferrite, 30Ω@100MHz, ±25%, 200mΩ, 300mA, SMD 0402; Manufacturer: HYHONGYEX; Manufacturer Part Number: EBMS100505A300; Package Size: 0402; JLCPCB Basic Part: No; JLCPCB Part Number: C963837; Supplier 1: LCSC; Category: Ferrite Beads; Supplier Part Number 1: C963837; Tolerance: ±25%; Rated Current: 300mA; DC Resistance: 200mΩ; RoHS: Yes; ComponentLink1Description: Datasheet; ComponentLink1URL: https://wmsc.lcsc.com/wmsc/upload/file/pdf/v2/lcsc/2304140030_HYHONGYEX-EBMS100505A300_C963837.pdf; ComponentLink2Description: JLCPCB Part URL; ComponentLink2URL: https://jlcpcb.com/partdetail/C963837; ComponentLink3Description: LCSC Part URL; ComponentLink3URL: https://lcsc.com/product-detail/Ferrite-Beads_HYHONGYEX-HYHONGYEX-EBMS100505A300_C963837.html
footprint FB-0402 (0402 (1005M) Ferrite)
pins: 1, 2

## EBMS100505A301
designator FB?  Impedance @ Frequency: 300Ω@100MHz
Ferrite, 300Ω@100MHz, ±25%, 800mΩ, 200mA, SMD 0402; Manufacturer: HYHONGYEX; Manufacturer Part Number: EBMS100505A301; Package Size: 0402; JLCPCB Basic Part: No; JLCPCB Part Number: C963841; Supplier 1: LCSC; Category: Ferrite Beads; Supplier Part Number 1: C963841; Tolerance: ±25%; Rated Current: 200mA; DC Resistance: 800mΩ; RoHS: Yes; ComponentLink1Description: Datasheet; ComponentLink1URL: https://wmsc.lcsc.com/wmsc/upload/file/pdf/v2/lcsc/2304140030_HYHONGYEX-EBMS100505A301_C963841.pdf; ComponentLink2Description: JLCPCB Part URL; ComponentLink2URL: https://jlcpcb.com/partdetail/C963841; ComponentLink3Description: LCSC Part URL; ComponentLink3URL: https://lcsc.com/product-detail/Ferrite-Beads_HYHONGYEX-HYHONGYEX-EBMS100505A301_C963841.html
footprint FB-0402 (0402 (1005M) Ferrite)
pins: 1, 2

## EBMS100505A601
designator FB?  Impedance @ Frequency: 600Ω@100MHz
Ferrite, 600Ω@100MHz, ±25%, 1Ω, 300mA, SMD 0402; Manufacturer: HYHONGYEX; Manufacturer Part Number: EBMS100505A601; Package Size: 0402; JLCPCB Basic Part: No; JLCPCB Part Number: C963842; Supplier 1: LCSC; Category: Ferrite Beads; Supplier Part Number 1: C963842; Tolerance: ±25%; Rated Current: 300mA; DC Resistance: 1Ω; RoHS: Yes; ComponentLink1Description: Datasheet; ComponentLink1URL: https://wmsc.lcsc.com/wmsc/upload/file/pdf/v2/lcsc/2304140030_HYHONGYEX-EBMS100505A601_C963842.pdf; ComponentLink2Description: JLCPCB Part URL; ComponentLink2URL: https://jlcpcb.com/partdetail/C963842; ComponentLink3Description: LCSC Part URL; ComponentLink3URL: https://lcsc.com/product-detail/Ferrite-Beads_HYHONGYEX-HYHONGYEX-EBMS100505A601_C963842.html
footprint FB-0402 (0402 (1005M) Ferrite)
pins: 1, 2

## EBMS100505A750
designator FB?  Impedance @ Frequency: 75Ω@100MHz
Ferrite, 75Ω@100MHz, ±25%, 250mΩ, 300mA, SMD 0402; Manufacturer: HYHONGYEX; Manufacturer Part Number: EBMS100505A750; Package Size: 0402; JLCPCB Basic Part: No; JLCPCB Part Number: C963838; Supplier 1: LCSC; Category: Ferrite Beads; Supplier Part Number 1: C963838; Tolerance: ±25%; Rated Current: 300mA; DC Resistance: 250mΩ; RoHS: Yes; ComponentLink1Description: Datasheet; ComponentLink1URL: https://wmsc.lcsc.com/wmsc/upload/file/pdf/v2/lcsc/2304140030_HYHONGYEX-EBMS100505A750_C963838.pdf; ComponentLink2Description: JLCPCB Part URL; ComponentLink2URL: https://jlcpcb.com/partdetail/C963838; ComponentLink3Description: LCSC Part URL; ComponentLink3URL: https://lcsc.com/product-detail/Ferrite-Beads_HYHONGYEX-HYHONGYEX-EBMS100505A750_C963838.html
footprint FB-0402 (0402 (1005M) Ferrite)
pins: 1, 2

## EPZ1005D121-2R0T
designator FB?  Impedance @ Frequency: 120Ω@100MHz
Ferrite, 120Ω@100MHz, ±25%, 50mΩ, 2A, SMD 0402; Manufacturer: Sunlord; Manufacturer Part Number: EPZ1005D121-2R0T; Package Size: 0402; JLCPCB Basic Part: No; JLCPCB Part Number: C2994658; Supplier 1: LCSC; Category: Ferrite Beads; Supplier Part Number 1: C2994658; Tolerance: ±25%; Rated Current: 2A; DC Resistance: 50mΩ; RoHS: Yes; ComponentLink1Description: Datasheet; ComponentLink1URL: https://wmsc.lcsc.com/wmsc/upload/file/pdf/v2/lcsc/2310301452_Sunlord-EPZ1005D121-2R0T_C2994658.pdf; ComponentLink2Description: JLCPCB Part URL; ComponentLink2URL: https://jlcpcb.com/partdetail/C2994658; ComponentLink3Description: LCSC Part URL; ComponentLink3URL: https://lcsc.com/product-detail/Ferrite-Beads_Sunlord-Sunlord-EPZ1005D121-2R0T_C2994658.html
footprint FB-0402 (0402 (1005M) Ferrite)
pins: 1, 2

## EPZ1005D800-2R3T
designator FB?  Impedance @ Frequency: 80Ω@100MHz
Ferrite, 80Ω@100MHz, ±25%, 38mΩ, 2.3A, SMD 0402; Manufacturer: Sunlord; Manufacturer Part Number: EPZ1005D800-2R3T; Package Size: 0402; JLCPCB Basic Part: No; JLCPCB Part Number: C2992329; Supplier 1: LCSC; Category: Ferrite Beads; Supplier Part Number 1: C2992329; Tolerance: ±25%; Rated Current: 2.3A; DC Resistance: 38mΩ; RoHS: Yes; ComponentLink1Description: Datasheet; ComponentLink1URL: https://wmsc.lcsc.com/wmsc/upload/file/pdf/v2/lcsc/2310301640_Sunlord-EPZ1005D800-2R3T_C2992329.pdf; ComponentLink2Description: JLCPCB Part URL; ComponentLink2URL: https://jlcpcb.com/partdetail/C2992329; ComponentLink3Description: LCSC Part URL; ComponentLink3URL: https://lcsc.com/product-detail/Ferrite-Beads_Sunlord-Sunlord-EPZ1005D800-2R3T_C2992329.html
footprint FB-0402 (0402 (1005M) Ferrite)
pins: 1, 2

## FBMA-11-100505-100A10T
designator FB?  Impedance @ Frequency: 10Ω@100MHz
Ferrite, 10Ω@100MHz, ±25%, 200mΩ, 1A, SMD 0402; Manufacturer: Kingcore; Manufacturer Part Number: FBMA-11-100505-100A10T; Package Size: 0402; JLCPCB Basic Part: No; JLCPCB Part Number: C491479; Supplier 1: LCSC; Category: Ferrite Beads; Supplier Part Number 1: C491479; Tolerance: ±25%; Rated Current: 1A; DC Resistance: 200mΩ; RoHS: Yes; ComponentLink1Description: Datasheet; ComponentLink1URL: https://datasheet.lcsc.com/lcsc/2003182011_Kingcore-FBMA-11-100505-100A10T_C491479.pdf; ComponentLink2Description: JLCPCB Part URL; ComponentLink2URL: https://jlcpcb.com/partdetail/C491479; ComponentLink3Description: LCSC Part URL; ComponentLink3URL: https://lcsc.com/product-detail/Ferrite-Beads_Kingcore-Kingcore-FBMA-11-100505-100A10T_C491479.html
footprint FB-0402 (0402 (1005M) Ferrite)
pins: 1, 2

## FBMA-11-100505-102A02T
designator FB?  Impedance @ Frequency: 1kΩ@100MHz
Ferrite, 1kΩ@100MHz, ±25%, 800mΩ, 200mA, SMD 0402; Manufacturer: Kingcore; Manufacturer Part Number: FBMA-11-100505-102A02T; Package Size: 0402; JLCPCB Basic Part: No; JLCPCB Part Number: C491491; Supplier 1: LCSC; Category: Ferrite Beads; Supplier Part Number 1: C491491; Tolerance: ±25%; Rated Current: 200mA; DC Resistance: 800mΩ; RoHS: Yes; ComponentLink1Description: Datasheet; ComponentLink1URL: https://datasheet.lcsc.com/lcsc/2003182011_Kingcore-FBMA-11-100505-102A02T_C491491.pdf; ComponentLink2Description: JLCPCB Part URL; ComponentLink2URL: https://jlcpcb.com/partdetail/C491491; ComponentLink3Description: LCSC Part URL; ComponentLink3URL: https://lcsc.com/product-detail/Ferrite-Beads_Kingcore-Kingcore-FBMA-11-100505-102A02T_C491491.html
footprint FB-0402 (0402 (1005M) Ferrite)
pins: 1, 2

## FBMA-11-100505-121A20T
designator FB?  Impedance @ Frequency: 120Ω@100MHz
Ferrite, 120Ω@100MHz, ±25%, 100mΩ, 2A, SMD 0402; Manufacturer: Kingcore; Manufacturer Part Number: FBMA-11-100505-121A20T; Package Size: 0402; JLCPCB Basic Part: No; JLCPCB Part Number: C491487; Supplier 1: LCSC; Category: Ferrite Beads; Supplier Part Number 1: C491487; Tolerance: ±25%; Rated Current: 2A; DC Resistance: 100mΩ; RoHS: Yes; ComponentLink1Description: Datasheet; ComponentLink1URL: https://datasheet.lcsc.com/lcsc/2003182011_Kingcore-FBMA-11-100505-121A20T_C491487.pdf; ComponentLink2Description: JLCPCB Part URL; ComponentLink2URL: https://jlcpcb.com/partdetail/C491487; ComponentLink3Description: LCSC Part URL; ComponentLink3URL: https://lcsc.com/product-detail/Ferrite-Beads_Kingcore-Kingcore-FBMA-11-100505-121A20T_C491487.html
footprint FB-0402 (0402 (1005M) Ferrite)
pins: 1, 2

## FBMA-11-100505-300A10T
designator FB?  Impedance @ Frequency: 30Ω@100MHz
Ferrite, 30Ω@100MHz, ±25%, 200mΩ, 1A, SMD 0402; Manufacturer: Kingcore; Manufacturer Part Number: FBMA-11-100505-300A10T; Package Size: 0402; JLCPCB Basic Part: No; JLCPCB Part Number: C491481; Supplier 1: LCSC; Category: Ferrite Beads; Supplier Part Number 1: C491481; Tolerance: ±25%; Rated Current: 1A; DC Resistance: 200mΩ; RoHS: Yes; ComponentLink1Description: Datasheet; ComponentLink1URL: https://datasheet.lcsc.com/lcsc/2003182011_Kingcore-FBMA-11-100505-300A10T_C491481.pdf; ComponentLink2Description: JLCPCB Part URL; ComponentLink2URL: https://jlcpcb.com/partdetail/C491481; ComponentLink3Description: LCSC Part URL; ComponentLink3URL: https://lcsc.com/product-detail/Ferrite-Beads_Kingcore-Kingcore-FBMA-11-100505-300A10T_C491481.html
footprint FB-0402 (0402 (1005M) Ferrite)
pins: 1, 2

## FBMA-11-100505-301A02T
designator FB?  Impedance @ Frequency: 300Ω@100MHz
Ferrite, 300Ω@100MHz, ±25%, 600mΩ, 200mA, SMD 0402; Manufacturer: Kingcore; Manufacturer Part Number: FBMA-11-100505-301A02T; Package Size: 0402; JLCPCB Basic Part: No; JLCPCB Part Number: C491489; Supplier 1: LCSC; Category: Ferrite Beads; Supplier Part Number 1: C491489; Tolerance: ±25%; Rated Current: 200mA; DC Resistance: 600mΩ; RoHS: Yes; ComponentLink1Description: Datasheet; ComponentLink1URL: https://datasheet.lcsc.com/lcsc/2003182011_Kingcore-FBMA-11-100505-301A02T_C491489.pdf; ComponentLink2Description: JLCPCB Part URL; ComponentLink2URL: https://jlcpcb.com/partdetail/C491489; ComponentLink3Description: LCSC Part URL; ComponentLink3URL: https://lcsc.com/product-detail/Ferrite-Beads_Kingcore-Kingcore-FBMA-11-100505-301A02T_C491489.html
footprint FB-0402 (0402 (1005M) Ferrite)
pins: 1, 2

## FBMA-11-100505-601A03T
designator FB?  Impedance @ Frequency: 600Ω@100MHz
Ferrite, 600Ω@100MHz, ±25%, 500mΩ, 300mA, SMD 0402; Manufacturer: Kingcore; Manufacturer Part Number: FBMA-11-100505-601A03T; Package Size: 0402; JLCPCB Basic Part: No; JLCPCB Part Number: C491490; Supplier 1: LCSC; Category: Ferrite Beads; Supplier Part Number 1: C491490; Tolerance: ±25%; Rated Current: 300mA; DC Resistance: 500mΩ; RoHS: Yes; ComponentLink1Description: Datasheet; ComponentLink1URL: https://datasheet.lcsc.com/lcsc/2003182011_Kingcore-FBMA-11-100505-601A03T_C491490.pdf; ComponentLink2Description: JLCPCB Part URL; ComponentLink2URL: https://jlcpcb.com/partdetail/C491490; ComponentLink3Description: LCSC Part URL; ComponentLink3URL: https://lcsc.com/product-detail/Ferrite-Beads_Kingcore-Kingcore-FBMA-11-100505-601A03T_C491490.html
footprint FB-0402 (0402 (1005M) Ferrite)
pins: 1, 2

## FBSWB0402-600-301R
designator FB?  Impedance @ Frequency: 60Ω@100MHz
Ferrite, 60Ω@100MHz, ±25%, 200mΩ, 300mA, SMD 0402; Manufacturer: KOHERelec; Manufacturer Part Number: FBSWB0402-600-301R; Package Size: 0402; JLCPCB Basic Part: No; JLCPCB Part Number: C2922543; Supplier 1: LCSC; Category: Ferrite Beads; Supplier Part Number 1: C2922543; Tolerance: ±25%; Rated Current: 300mA; DC Resistance: 200mΩ; RoHS: Yes; ComponentLink1Description: Datasheet; ComponentLink1URL: https://wmsc.lcsc.com/wmsc/upload/file/pdf/v2/lcsc/2201121300_KOHERelec-FBSWB0402-600-301R_C2922543.pdf; ComponentLink2Description: JLCPCB Part URL; ComponentLink2URL: https://jlcpcb.com/partdetail/C2922543; ComponentLink3Description: LCSC Part URL; ComponentLink3URL: https://lcsc.com/product-detail/Ferrite-Beads_KOHERelec-KOHERelec-FBSWB0402-600-301R_C2922543.html
footprint FB-0402 (0402 (1005M) Ferrite)
pins: 1, 2

## FCM1005KF-100T03
designator FB?  Impedance @ Frequency: 10Ω@100MHz
Ferrite, 10Ω@100MHz, ±25%, 200mΩ, 300mA, SMD 0402; Manufacturer: TAI-TECH; Manufacturer Part Number: FCM1005KF-100T03; Package Size: 0402; JLCPCB Basic Part: No; JLCPCB Part Number: C356928; Supplier 1: LCSC; Category: Ferrite Beads; Supplier Part Number 1: C356928; Tolerance: ±25%; Rated Current: 300mA; DC Resistance: 200mΩ; RoHS: Yes; ComponentLink1Description: Datasheet; ComponentLink1URL: https://wmsc.lcsc.com/wmsc/upload/file/pdf/v2/lcsc/2009171137_TAI-TECH-FCM1005KF-100T03_C356928.pdf; ComponentLink2Description: JLCPCB Part URL; ComponentLink2URL: https://jlcpcb.com/partdetail/C356928; ComponentLink3Description: LCSC Part URL; ComponentLink3URL: https://lcsc.com/product-detail/Ferrite-Beads_TAI-TECH-TAI-TECH-FCM1005KF-100T03_C356928.html
footprint FB-0402 (0402 (1005M) Ferrite)
pins: 1, 2

## FCM1005KF-101T05
designator FB?  Impedance @ Frequency: 100Ω@100MHz
Ferrite, 100Ω@100MHz, ±25%, 300mΩ, 500mA, SMD 0402; Manufacturer: TAI-TECH; Manufacturer Part Number: FCM1005KF-101T05; Package Size: 0402; JLCPCB Basic Part: No; JLCPCB Part Number: C369534; Supplier 1: LCSC; Category: Ferrite Beads; Supplier Part Number 1: C369534; Tolerance: ±25%; Rated Current: 500mA; DC Resistance: 300mΩ; RoHS: Yes; ComponentLink1Description: Datasheet; ComponentLink1URL: https://wmsc.lcsc.com/wmsc/upload/file/pdf/v2/lcsc/2009171441_TAI-TECH-FCM1005KF-101T05_C369534.pdf; ComponentLink2Description: JLCPCB Part URL; ComponentLink2URL: https://jlcpcb.com/partdetail/C369534; ComponentLink3Description: LCSC Part URL; ComponentLink3URL: https://lcsc.com/product-detail/Ferrite-Beads_TAI-TECH-TAI-TECH-FCM1005KF-101T05_C369534.html
footprint FB-0402 (0402 (1005M) Ferrite)
pins: 1, 2

## FCM1005KF-102T00
designator FB?  Impedance @ Frequency: 1kΩ@100MHz
Ferrite, 1kΩ@100MHz, ±25%, 1.2Ω, 50mA, SMD 0402; Manufacturer: TAI-TECH; Manufacturer Part Number: FCM1005KF-102T00; Package Size: 0402; JLCPCB Basic Part: No; JLCPCB Part Number: C155041; Supplier 1: LCSC; Category: Ferrite Beads; Supplier Part Number 1: C155041; Tolerance: ±25%; Rated Current: 50mA; DC Resistance: 1.2Ω; RoHS: Yes; ComponentLink1Description: Datasheet; ComponentLink1URL: https://wmsc.lcsc.com/wmsc/upload/file/pdf/v2/lcsc/2009171306_TAI-TECH-FCM1005KF-102T00_C155041.pdf; ComponentLink2Description: JLCPCB Part URL; ComponentLink2URL: https://jlcpcb.com/partdetail/C155041; ComponentLink3Description: LCSC Part URL; ComponentLink3URL: https://lcsc.com/product-detail/Ferrite-Beads_TAI-TECH-TAI-TECH-FCM1005KF-102T00_C155041.html
footprint FB-0402 (0402 (1005M) Ferrite)
pins: 1, 2

## FCM1005KF-102T01
designator FB?  Impedance @ Frequency: 1kΩ@100MHz
Ferrite, 1kΩ@100MHz, ±25%, 1.3Ω, 100mA, SMD 0402; Manufacturer: TAI-TECH; Manufacturer Part Number: FCM1005KF-102T01; Package Size: 0402; JLCPCB Basic Part: No; JLCPCB Part Number: C356929; Supplier 1: LCSC; Category: Ferrite Beads; Supplier Part Number 1: C356929; Tolerance: ±25%; Rated Current: 100mA; DC Resistance: 1.3Ω; RoHS: Yes; ComponentLink1Description: Datasheet; ComponentLink1URL: https://wmsc.lcsc.com/wmsc/upload/file/pdf/v2/lcsc/2009171137_TAI-TECH-FCM1005KF-102T01_C356929.pdf; ComponentLink2Description: JLCPCB Part URL; ComponentLink2URL: https://jlcpcb.com/partdetail/C356929; ComponentLink3Description: LCSC Part URL; ComponentLink3URL: https://lcsc.com/product-detail/Ferrite-Beads_TAI-TECH-TAI-TECH-FCM1005KF-102T01_C356929.html
footprint FB-0402 (0402 (1005M) Ferrite)
pins: 1, 2

## FCM1005KF-102T02
designator FB?  Impedance @ Frequency: 1kΩ@100MHz
Ferrite, 1kΩ@100MHz, ±25%, 900mΩ, 200mA, SMD 0402; Manufacturer: TAI-TECH; Manufacturer Part Number: FCM1005KF-102T02; Package Size: 0402; JLCPCB Basic Part: No; JLCPCB Part Number: C356930; Supplier 1: LCSC; Category: Ferrite Beads; Supplier Part Number 1: C356930; Tolerance: ±25%; Rated Current: 200mA; DC Resistance: 900mΩ; RoHS: Yes; ComponentLink1Description: Datasheet; ComponentLink1URL: https://wmsc.lcsc.com/wmsc/upload/file/pdf/v2/lcsc/2009171137_TAI-TECH-FCM1005KF-102T02_C356930.pdf; ComponentLink2Description: JLCPCB Part URL; ComponentLink2URL: https://jlcpcb.com/partdetail/C356930; ComponentLink3Description: LCSC Part URL; ComponentLink3URL: https://lcsc.com/product-detail/Ferrite-Beads_TAI-TECH-TAI-TECH-FCM1005KF-102T02_C356930.html
footprint FB-0402 (0402 (1005M) Ferrite)
pins: 1, 2